# EAGLE library part HDM20216H (library abi-lcd)
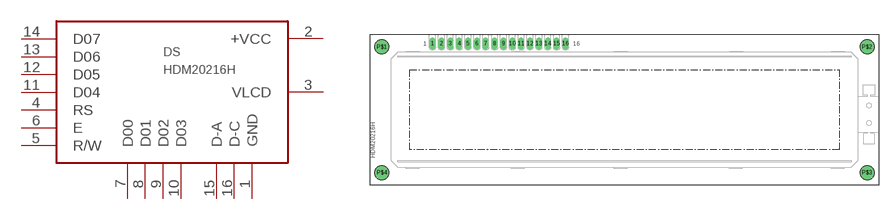
[diagram p1: symbol with the pads of HDM20216H; footprint HDM20216H]

Designator prefix DS

## HDM20216H  [HDM20216H]
1  GND
2  +VCC
3  VLCD
4  RS
5  R/W
6  E
7  D00
8  D01
9  D02
10  D03
11  D04
12  D05
13  D06
14  D07
15  D-A
16  D-C

## Footprint HDM20216H (pad centres in mm)
drill 1.016 pad 1.778 long: 1 -53.349,17.792; 2 -50.809,17.792; 3 -48.269,17.792; 4 -45.729,17.792; 5 -43.189,17.792; 6 -40.649,17.792; 7 -38.109,17.792; 8 -35.569,17.792; 9 -33.029,17.792; 10 -30.489,17.792; 11 -27.949,17.792; 12 -25.409,17.792; 13 -22.869,17.792; 14 -20.329,17.792; 15 -17.789,17.792; 16 -15.249,17.792
drill 2.54 pad 3.81 round: P$1 -67.856,16.789; P$2 71.145,16.789; P$3 71.145,-19.202; P$4 -67.843,-19.215